# Altium footprint library WE-GF.PcbLib: 2 footprints
Each footprint in its own frame and in the unit in brackets; x right, y up, seen from the top. Pads: shape width x height; smd on the part's side, far side on the other; paste and mask are expansions set on the pad; w line width, h text height; cw(c..) or ccw(c..) is an arc to the next point about the centre after c.
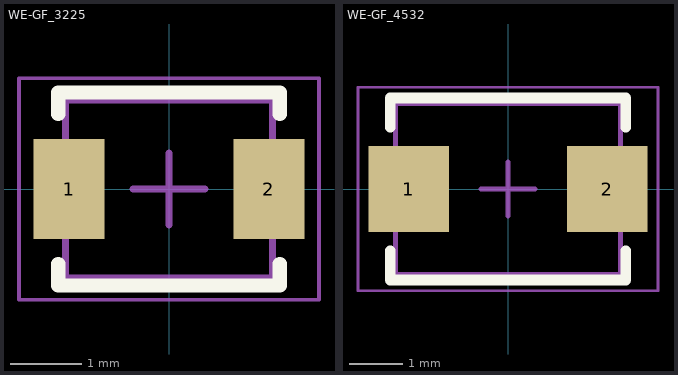
[diagram p0: the footprints below, top view; thin cyan lines are the x and y axes]

## WE-GF_3225 [mm] "SMT Wire Wound Inductor, body 3.2x2.5mm"
height 2.4
pads (2):
  rect 1x1.4 smd: 1(-1.4,0) 2(1.4,0)
Top Overlay:
  lines w0.2: -1.55,-1.05 -1.55,-1.35 1.55,-1.35 1.55,-1.05 ; -1.55,1.05 -1.55,1.35 1.55,1.35 1.55,1.05
Top Assembly:
  lines w0.1: -1.45,-1.25 -1.45,1.25 1.45,1.25 1.45,-1.25 -1.45,-1.25
Top Designator:
  text ".Designator" at -3.647,-0.357 h1
Top 3D Body:
  lines w0.1: -1.45,-1.25 1.45,-1.25 1.45,1.25 -1.45,1.25 -1.45,-1.25
Top Courtyard:
  lines w0.05: -2.1,-1.55 -2.1,1.55 2.1,1.55 2.1,-1.55 -2.1,-1.55
Top Component Center:
  lines w0.1: -0.5,0 0.5,0 ; 0,-0.5 0,0.5
3D body "744764xxx_1210.stp": height 2.21, standoff 0.01, extent -1.6,-1.25 1.6,1.25

## WE-GF_4532 [mm] "SMT Wire Wound Inductor, body 4.5x3.2mm"
height 3.6
pads (2):
  rect 1.5x1.6 smd: 1(-1.85,0) 2(1.85,0)
Top Overlay:
  lines w0.2: -2.2,-1.15 -2.2,-1.7 2.2,-1.7 2.2,-1.15 ; -2.2,1.15 -2.2,1.7 2.2,1.7 2.2,1.15
Top Assembly:
  lines w0.1: -2.1,-1.6 -2.1,1.6 2.1,1.6 2.1,-1.6 -2.1,-1.6
Top Designator:
  text ".Designator" at -3.647,-0.357 h1
Top 3D Body:
  lines w0.1: -2.1,-1.6 2.1,-1.6 2.1,1.6 -2.1,1.6 -2.1,-1.6
Top Courtyard:
  lines w0.05: -2.8,-1.9 -2.8,1.9 2.8,1.9 2.8,-1.9 -2.8,-1.9
Top Component Center:
  lines w0.1: -0.5,0 0.5,0 ; 0,-0.5 0,0.5
3D body "744766xxx_1812.stp": height 3.21, standoff 0.01, extent -2.25,-1.6 2.25,1.6